# Altium schematic symbol library RES 300k 1_8W.Schlib: 1 symbol
Pins are listed as number, name and electrical type; pins without a type are passive.

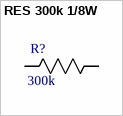
[diagram p0: symbol RES 300k 1/8W]

## RES 300k 1/8W
designator R?, comment 300k
RES SMD 300K OHM 5% 1/8W 0805
pins: 1 R1, 2 R2